# EAGLE library part ADS8686S (library Bauteile)
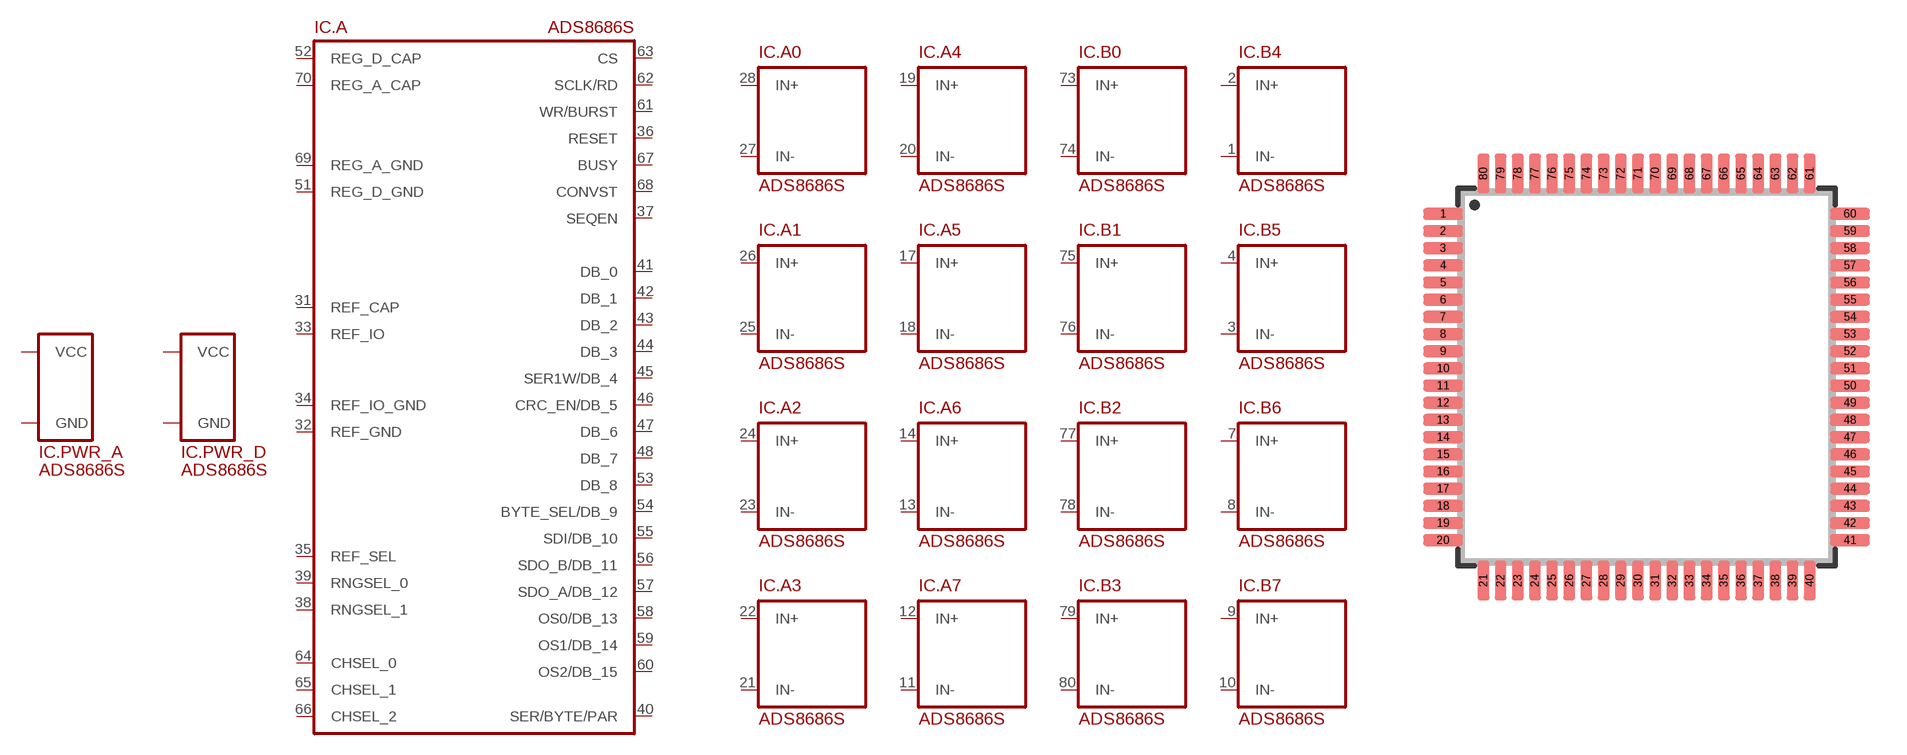
[diagram p195: symbol with the pads of LQFP80-0.65; footprint LQFP80-0.65]

Designator prefix IC; gates .PWR_A=SUPPLY_VCC/GND .PWR_D=SUPPLY_VCC/GND .A=ADS8686S .A0=ADC_CHANNEL .A1=ADC_CHANNEL .A2=ADC_CHANNEL .A3=ADC_CHANNEL .A4=ADC_CHANNEL .A5=ADC_CHANNEL .A6=ADC_CHANNEL .A7=ADC_CHANNEL .B0=ADC_CHANNEL .B1=ADC_CHANNEL .B2=ADC_CHANNEL .B3=ADC_CHANNEL .B4=ADC_CHANNEL .B5=ADC_CHANNEL .B6=ADC_CHANNEL .B7=ADC_CHANNEL

## ADS8686S  [LQFP80-0.65]
1  .B4:IN-
2  .B4:IN+
3  .B5:IN-
4  .B5:IN+
5  .PWR_A:GND
6  .PWR_A:VCC
7  .B6:IN+
8  .B6:IN-
9  .B7:IN+
10  .B7:IN-
11  .A7:IN-
12  .A7:IN+
13  .A6:IN-
14  .A6:IN+
15  .PWR_A:VCC
16  .PWR_A:GND
17  .A5:IN+
18  .A5:IN-
19  .A4:IN+
20  .A4:IN-
21  .A3:IN-
22  .A3:IN+
23  .A2:IN-
24  .A2:IN+
25  .A1:IN-
26  .A1:IN+
27  .A0:IN-
28  .A0:IN+
29  .PWR_A:GND
30  .PWR_A:VCC
31  .A:REF_CAP
32  .A:REF_GND
33  .A:REF_IO
34  .A:REF_IO_GND
35  .A:REF_SEL
36  .A:RESET
37  .A:SEQEN
38  .A:RNGSEL_1
39  .A:RNGSEL_0
40  .A:SER/BYTE/PAR
41  .A:DB_0
42  .A:DB_1
43  .A:DB_2
44  .A:DB_3
45  .A:SER1W/DB_4
46  .A:CRC_EN/DB_5
47  .A:DB_6
48  .A:DB_7
49  .PWR_D:VCC
50  .PWR_D:GND
51  .A:REG_D_GND
52  .A:REG_D_CAP
53  .A:DB_8
54  .A:BYTE_SEL/DB_9
55  .A:SDI/DB_10
56  .A:SDO_B/DB_11
57  .A:SDO_A/DB_12
58  .A:OS0/DB_13
59  .A:OS1/DB_14
60  .A:OS2/DB_15
61  .A:WR/BURST
62  .A:SCLK/RD
63  .A:CS
64  .A:CHSEL_0
65  .A:CHSEL_1
66  .A:CHSEL_2
67  .A:BUSY
68  .A:CONVST
69  .A:REG_A_GND
70  .A:REG_A_CAP
71  .PWR_A:VCC
72  .PWR_A:GND
73  .B0:IN+
74  .B0:IN-
75  .B1:IN+
76  .B1:IN-
77  .B2:IN+
78  .B2:IN-
79  .B3:IN+
80  .B3:IN-

## Footprint LQFP80-0.65 (pad centres in mm)
smd 1.5 x 0.45: 1 -7.7,6.175; 2 -7.7,5.525; 3 -7.7,4.875; 4 -7.7,4.225; 5 -7.7,3.575; 6 -7.7,2.925; 7 -7.7,2.275; 8 -7.7,1.625; 9 -7.7,0.975; 10 -7.7,0.325; 11 -7.7,-0.325; 12 -7.7,-0.975; 13 -7.7,-1.625; 14 -7.7,-2.275; 15 -7.7,-2.925; 16 -7.7,-3.575; 17 -7.7,-4.225; 18 -7.7,-4.875; 19 -7.7,-5.525; 20 -7.7,-6.175; 41 7.7,-6.175; 42 7.7,-5.525; 43 7.7,-4.875; 44 7.7,-4.225; 45 7.7,-3.575; 46 7.7,-2.925; 47 7.7,-2.275; 48 7.7,-1.625; 49 7.7,-0.975; 50 7.7,-0.325; 51 7.7,0.325; 52 7.7,0.975; 53 7.7,1.625; 54 7.7,2.275; 55 7.7,2.925; 56 7.7,3.575; 57 7.7,4.225; 58 7.7,4.875; 59 7.7,5.525; 60 7.7,6.175
smd 0.45 x 1.5: 21 -6.175,-7.7; 22 -5.525,-7.7; 23 -4.875,-7.7; 24 -4.225,-7.7; 25 -3.575,-7.7; 26 -2.925,-7.7; 27 -2.275,-7.7; 28 -1.625,-7.7; 29 -0.975,-7.7; 30 -0.325,-7.7; 31 0.325,-7.7; 32 0.975,-7.7; 33 1.625,-7.7; 34 2.275,-7.7; 35 2.925,-7.7; 36 3.575,-7.7; 37 4.225,-7.7; 38 4.875,-7.7; 39 5.525,-7.7; 40 6.175,-7.7; 61 6.175,7.7; 62 5.525,7.7; 63 4.875,7.7; 64 4.225,7.7; 65 3.575,7.7; 66 2.925,7.7; 67 2.275,7.7; 68 1.625,7.7; 69 0.975,7.7; 70 0.325,7.7; 71 -0.325,7.7; 72 -0.975,7.7; 73 -1.625,7.7; 74 -2.275,7.7; 75 -2.925,7.7; 76 -3.575,7.7; 77 -4.225,7.7; 78 -4.875,7.7; 79 -5.525,7.7; 80 -6.175,7.7